# Altium schematic symbol library Male Headers Dual Row.SchLib: 19 symbols
Pins are listed as number, name and electrical type; pins without a type are passive.

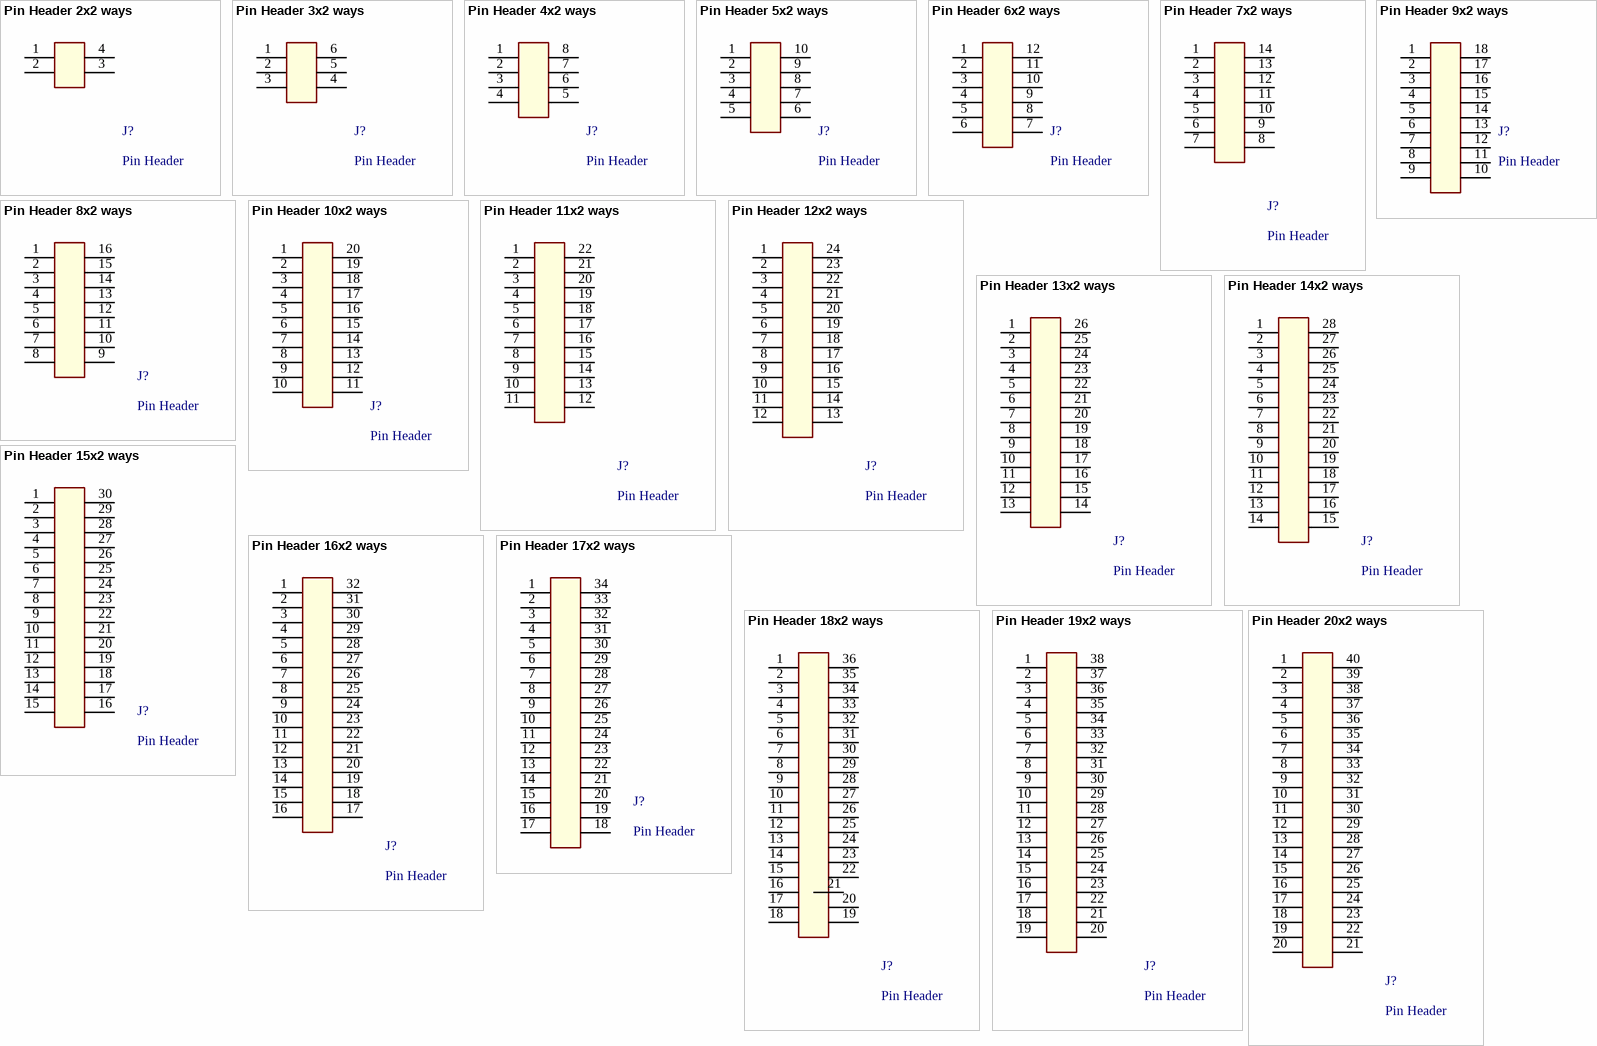
[diagram p0: symbols Pin Header 2x2 ways to Pin Header 20x2 ways]

## Pin Header 2x2 ways
designator J?, comment Pin Header
Connector Header PTH 0.100" (2.54mm); Manufacturer 1: Irwin Inc.; Manufacturer 1 PN: M20-9992046
footprint Pin Header 2x2 ways (Connector Header 2x2 ways PTH 0.100" (2.54mm))
pins: 1, 2, 3, 4

## Pin Header 3x2 ways
designator J?, comment Pin Header
Connector Header PTH 0.100" (2.54mm); Manufacturer 1: Irwin Inc.; Manufacturer 1 PN: M20-9992046
footprint Pin Header 3x2 Ways (Connector Header 3x2 ways PTH 0.100" (2.54mm))
pins: 1, 2, 3, 4, 5, 6

## Pin Header 4x2 ways
designator J?, comment Pin Header
Connector Header PTH 0.100" (2.54mm); Manufacturer 1: Irwin Inc.; Manufacturer 1 PN: M20-9992046
footprint Pin Header 4x2 Ways (Connector Header 4x2 ways PTH 0.100" (2.54mm))
pins: 1, 2, 3, 4, 5, 6, 7, 8

## Pin Header 5x2 ways
designator J?, comment Pin Header
Connector Header PTH 0.100" (2.54mm); Manufacturer 1: Irwin Inc.; Manufacturer 1 PN: M20-9992046
footprint Pin Header 5x2 Ways (Connector Header 5x2 ways PTH 0.100" (2.54mm))
pins: 1, 2, 3, 4, 5, 6, 7, 8, 9, 10

## Pin Header 6x2 ways
designator J?, comment Pin Header
Connector Header PTH 0.100" (2.54mm); Manufacturer 1: Irwin Inc.; Manufacturer 1 PN: M20-9992046
footprint Pin Header 6x2 Ways (Connector Header 6x2 ways PTH 0.100" (2.54mm))
pins: 1, 2, 3, 4, 5, 6, 7, 8, 9, 10, 11, 12

## Pin Header 7x2 ways
designator J?, comment Pin Header
Connector Header PTH 0.100" (2.54mm); Manufacturer 1: Irwin Inc.; Manufacturer 1 PN: M20-9992046
footprint Pin Header 7x2 Ways (Connector Header 7x2 ways PTH 0.100" (2.54mm))
pins: 1, 2, 3, 4, 5, 6, 7, 8, 9, 10, 11, 12, 13, 14

## Pin Header 8x2 ways
designator J?, comment Pin Header
Connector Header PTH 0.100" (2.54mm); Manufacturer 1: Irwin Inc.; Manufacturer 1 PN: M20-9992046
footprint Pin Header 8x2 Ways (Connector Header 8x2 ways PTH 0.100" (2.54mm))
pins: 1, 2, 3, 4, 5, 6, 7, 8, 9, 10, 11, 12, 13, 14, 15, 16

## Pin Header 9x2 ways
designator J?, comment Pin Header
Connector Header PTH 0.100" (2.54mm); Manufacturer 1: Irwin Inc.; Manufacturer 1 PN: M20-9992046
footprint Pin Header 9x2 Ways (Connector Header 9x2 ways PTH 0.100" (2.54mm))
pins: 1, 2, 3, 4, 5, 6, 7, 8, 9, 10, 11, 12, 13, 14, 15, 16, 17, 18

## Pin Header 10x2 ways
designator J?, comment Pin Header
Connector Header PTH 0.100" (2.54mm); Manufacturer 1: Irwin Inc.; Manufacturer 1 PN: M20-9992046
footprint Pin Header 10x2 Ways (Connector Header 10x2 ways PTH 0.100" (2.54mm))
pins: 1, 2, 3, 4, 5, 6, 7, 8, 9, 10, 11, 12, 13, 14, 15, 16, 17, 18, 19, 20

## Pin Header 11x2 ways
designator J?, comment Pin Header
Connector Header PTH 0.100" (2.54mm); Manufacturer 1: Irwin Inc.; Manufacturer 1 PN: M20-9992046
footprint Pin Header 11x2 Ways (Connector Header 11x2 ways PTH 0.100" (2.54mm))
pins: 1, 2, 3, 4, 5, 6, 7, 8, 9, 10, 11, 12, 13, 14, 15, 16, 17, 18, 19, 20, 21, 22

## Pin Header 12x2 ways
designator J?, comment Pin Header
Connector Header PTH 0.100" (2.54mm); Manufacturer 1: Irwin Inc.; Manufacturer 1 PN: M20-9992046
footprint Pin Header 12x2 Ways (Connector Header 12x2 ways PTH 0.100" (2.54mm))
pins: 1, 2, 3, 4, 5, 6, 7, 8, 9, 10, 11, 12, 13, 14, 15, 16, 17, 18, 19, 20, 21, 22, 23, 24

## Pin Header 13x2 ways
designator J?, comment Pin Header
Connector Header PTH 0.100" (2.54mm); Manufacturer 1: Irwin Inc.; Manufacturer 1 PN: M20-9992046
footprint Pin Header 13x2 Ways (Connector Header 13x2 ways PTH 0.100" (2.54mm))
pins: 1, 2, 3, 4, 5, 6, 7, 8, 9, 10, 11, 12, 13, 14, 15, 16, 17, 18, 19, 20, 21, 22, 23, 24, 25, 26

## Pin Header 14x2 ways
designator J?, comment Pin Header
Connector Header PTH 0.100" (2.54mm); Manufacturer 1: Irwin Inc.; Manufacturer 1 PN: M20-9992046
footprint Pin Header 14x2 Ways (Connector Header 14x2 ways PTH 0.100" (2.54mm))
pins: 1, 2, 3, 4, 5, 6, 7, 8, 9, 10, 11, 12, 13, 14, 15, 16, 17, 18, 19, 20, 21, 22, 23, 24, 25, 26, 27, 28

## Pin Header 15x2 ways
designator J?, comment Pin Header
Connector Header PTH 0.100" (2.54mm); Manufacturer 1: Irwin Inc.; Manufacturer 1 PN: M20-9992046
footprint Pin Header 15x2 Ways (Connector Header 15x2 ways PTH 0.100" (2.54mm))
pins: 1, 2, 3, 4, 5, 6, 7, 8, 9, 10, 11, 12, 13, 14, 15, 16, 17, 18, 19, 20, 21, 22, 23, 24, 25, 26, 27, 28, 29, 30

## Pin Header 16x2 ways
designator J?, comment Pin Header
Connector Header PTH 0.100" (2.54mm); Manufacturer 1: Irwin Inc.; Manufacturer 1 PN: M20-9992046
footprint Pin Header 16x2 Ways (Connector Header 16x2 ways PTH 0.100" (2.54mm))
pins: 1, 2, 3, 4, 5, 6, 7, 8, 9, 10, 11, 12, 13, 14, 15, 16, 17, 18, 19, 20, 21, 22, 23, 24, 25, 26, 27, 28, 29, 30, 31, 32

## Pin Header 17x2 ways
designator J?, comment Pin Header
Connector Header PTH 0.100" (2.54mm); Manufacturer 1: Irwin Inc.; Manufacturer 1 PN: M20-9992046
footprint Pin Header 17x2 Ways (Connector Header 17x2 ways PTH 0.100" (2.54mm))
pins: 1, 2, 3, 4, 5, 6, 7, 8, 9, 10, 11, 12, 13, 14, 15, 16, 17, 18, 19, 20, 21, 22, 23, 24, 25, 26, 27, 28, 29, 30, 31, 32, 33, 34

## Pin Header 18x2 ways
designator J?, comment Pin Header
Connector Header PTH 0.100" (2.54mm); Manufacturer 1: Irwin Inc.; Manufacturer 1 PN: M20-9992046
footprint Pin Header 18x2 Ways (Connector Header 18x2 ways PTH 0.100" (2.54mm))
pins: 1, 2, 3, 4, 5, 6, 7, 8, 9, 10, 11, 12, 13, 14, 15, 16, 17, 18, 19, 20, 21, 22, 23, 24, 25, 26, 27, 28, 29, 30, 31, 32, 33, 34, 35, 36

## Pin Header 19x2 ways
designator J?, comment Pin Header
Connector Header PTH 0.100" (2.54mm); Manufacturer 1: Irwin Inc.; Manufacturer 1 PN: M20-9992046
footprint Pin Header 19x2 Ways (Connector Header 19x2 ways PTH 0.100" (2.54mm))
pins: 1, 2, 3, 4, 5, 6, 7, 8, 9, 10, 11, 12, 13, 14, 15, 16, 17, 18, 19, 20, 21, 22, 23, 24, 25, 26, 27, 28, 29, 30, 31, 32, 33, 34, 35, 36, 37, 38

## Pin Header 20x2 ways
designator J?, comment Pin Header
Connector Header PTH 0.100" (2.54mm); Manufacturer 1: Irwin Inc.; Manufacturer 1 PN: M20-9992046
footprint Pin Header 20x2 Ways (Connector Header 20x2 ways PTH 0.100" (2.54mm))
pins: 1, 2, 3, 4, 5, 6, 7, 8, 9, 10, 11, 12, 13, 14, 15, 16, 17, 18, 19, 20, 21, 22, 23, 24, 25, 26, 27, 28, 29, 30, 31, 32, 33, 34, 35, 36, 37, 38, 39, 40